# Altium footprint library LPSON_RES.PcbLib: 28 footprints (part 2 of 2)
Each footprint in its own frame and in the unit in brackets; x right, y up, seen from the top. Pads: shape width x height; smd on the part's side, far side on the other; paste and mask are expansions set on the pad; w line width, h text height; cw(c..) or ccw(c..) is an arc to the next point about the centre after c.
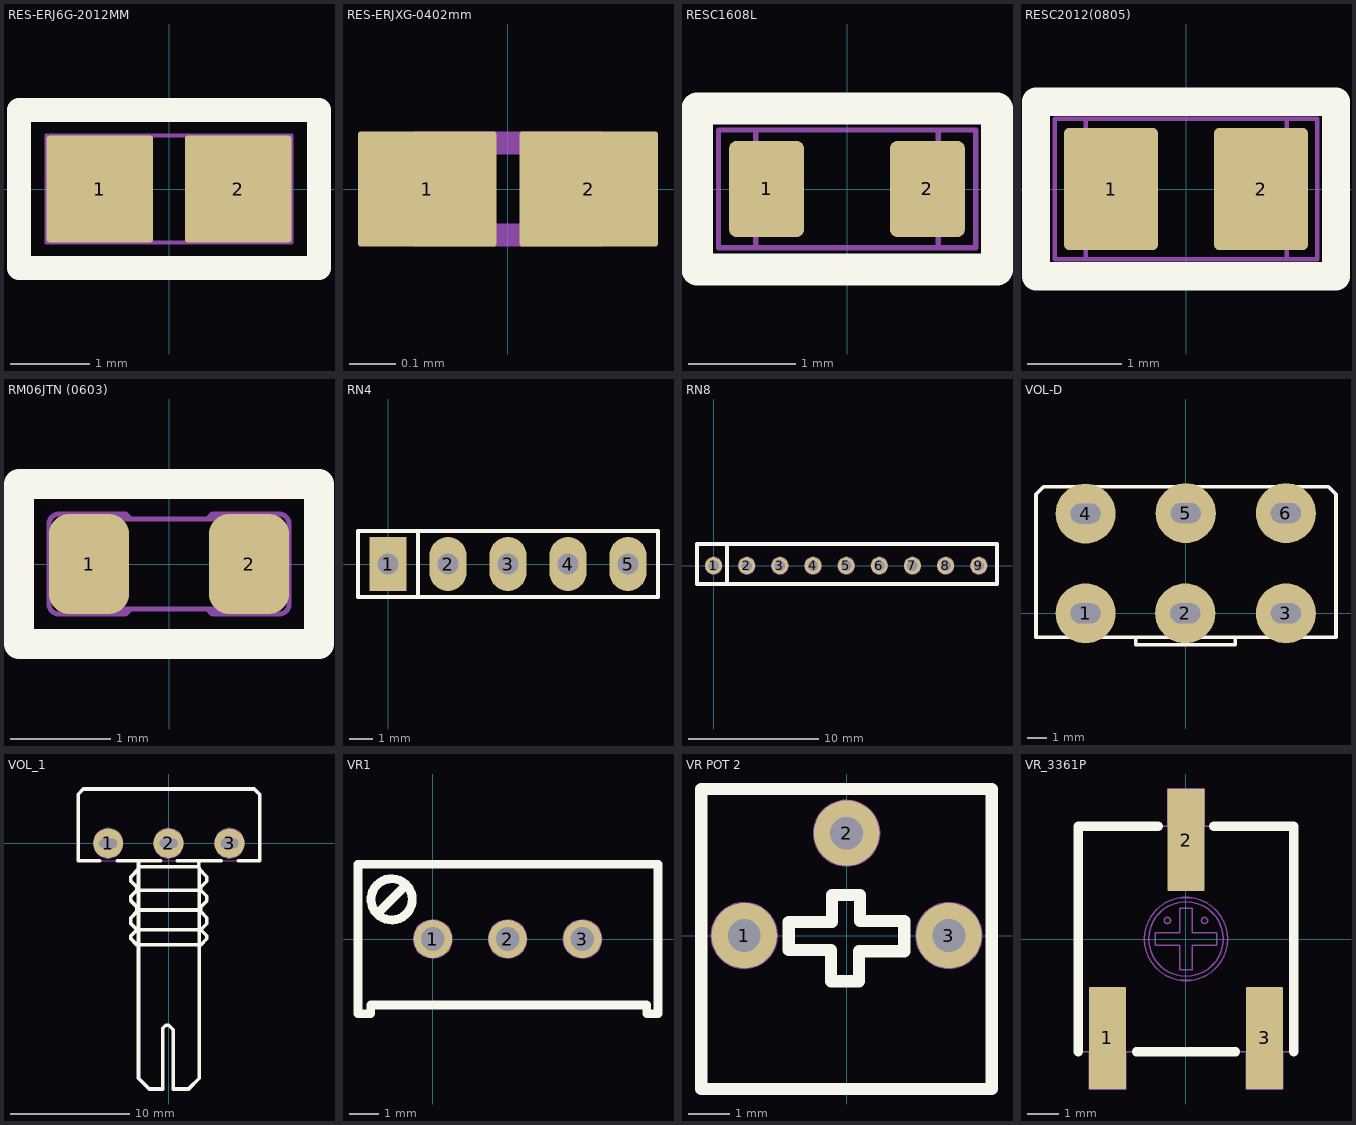
[diagram p1: the footprints below, top view; thin cyan lines are the x and y axes]

## RES-ERJ6G-2012MM [mm] "Chip Resistor, Body 2.0x1.3mm, 1/8W 0805INCH"
height 0.7
pads (2):
  rrect5% 1.35x1.35 smd mask+0.1: 1(-0.875,0) 2(0.875,0)
Top Overlay:
  lines w0.3: -1.9,-1 -1.9,1 1.9,1 1.9,-1 -1.9,-1
Mechanical 1:
  lines w0.05: -0.15,-0.675 -1.55,-0.675 -1.55,0.675 -0.15,0.675 ; 0.8,-0.675 1.55,-0.675 1.55,0.675 0.8,0.675 ; -1.05,-0.675 1.05,-0.675 1.05,0.675 -1.05,0.675 -1.05,-0.675
  text "R?" at 0,0 h0.5
3D body "Res 0805.STEP": height 0.6, standoff 0, extent -1,-0.625 1,0.625

## RES-ERJXG-0402mm [mm] "Chip Resistor, Body 0402mm, 0.031W 1005inch"
height 0.15
pads (2):
  rrect5% 0.3x0.25 smd mask+0.05: 1(-0.175,0) 2(0.175,0)
Mechanical 1:
  lines w0.05: -0.1,-0.1 -0.1,0.1 ; 0.1,-0.1 0.1,0.1 ; -0.2,-0.1 0.2,-0.1 0.2,0.1 -0.2,0.1 -0.2,-0.1
  text "R?" at 0,0 h0.5
3D body "User Library-Chip Resistor2.step": height 0.26, standoff 0, extent -0.3,-0.15 0.3,0.15

## RESC1608L [mm] "Chip Resistor, Body 1.6x0.8mm, 1/10W 0603"
height 0.6
pads (2):
  rrect20% 0.7x0.9 smd: 1(-0.75,0) 2(0.75,0)
Top Overlay:
  lines w0.3: -1.4,-0.75 -1.4,0.75 1.4,0.75 1.4,-0.75 -1.4,-0.75
Mechanical 1:
  lines w0.05: -0.85,-0.55 -0.85,0.55 ; 0.85,-0.54 0.85,0.54 ; -1.2,-0.55 -1.2,0.55 1.2,0.55 1.2,-0.55 -1.2,-0.55
  text "R?" at 0,0 h0.5
3D body "Res 0603.STEP": height 0.45, standoff 0, extent -0.8,-0.4 0.8,0.4

## RESC2012(0805) [mm] "Chip Resistor, Body 2.0x1.3mm, 1/8W 0805"
height 0.65
pads (2):
  rrect10% 1x1.3 smd: 1(-0.8,0) 2(0.8,0)
Top Overlay:
  lines w0.3: -1.6,-0.93 1.6,-0.93 1.6,0.93 -1.6,0.93 -1.6,-0.93
Mechanical 1:
  lines w0.05: -1.07,-0.74 -1.07,0.75 ; 1.075,-0.74 1.075,0.75 ; -1.4,-0.75 1.4,-0.75 1.4,0.75 -1.4,0.75 -1.4,-0.75
  text "R?" at 0,0 h0.5
3D body "Res 0805.STEP": height 0.6, standoff 0, extent -1,-0.625 1,0.625

## RM06JTN (0603) [mm] "RESISTOR_1/10W_SMD"
height 0.6
pads (2):
  rrect50% 0.8x1 smd mask+0.1: 1(-0.8,0) 2(0.8,0)
Top Overlay:
  lines w0.3: -1.5,-0.8 -1.5,0.8 1.5,0.8 1.5,-0.8 -1.5,-0.8
Mechanical 1:
  lines w0.05: -0.4,-0.449 cw(c-0.45,-0.449) -0.451,-0.5 -1.1,-0.5 cw(c-1.1,-0.4) -1.2,-0.4 -1.2,0.4 cw(c-1.1,0.4) -1.1,0.5 -0.45,0.5 cw(c-0.45,0.45) -0.4,0.45 ; 0.4,-0.45 ccw(c0.45,-0.45) 0.45,-0.5 1.1,-0.5 ccw(c1.1,-0.4) 1.2,-0.4 1.2,0.4 ccw(c1.1,0.4) 1.1,0.5 0.45,0.5 ccw(c0.45,0.45) 0.4,0.45 ; -0.85,-0.45 -0.85,0.45 0.85,0.45 0.85,-0.45 -0.85,-0.45
  text "R?" at 0,0 h0.5
3D body "User Library-Panasonic0603.step": height 0.45, standoff 0, extent -0.8,-0.41 0.8,0.41

## RN4 [mil] "R SIP4, 5 Pin"
height 200
pads (5):
  rect 62x90 hole 35: 1(0,0)
  oval 62x90 hole 35: 2(100,0) 3(200,0) 4(300,0) 5(400,0)
Top Overlay:
  lines w7: 50,-55 50,55 ; -50,-55 -50,55 450,55 450,-55 -50,-55

## RN8 [mm] "R SIP8, 9 Pin"
height 5.08
pads (9):
  round 1.3 hole 0.8: 1(0,0) 2(2.54,0) 3(5.08,0) 4(7.62,0) 5(10.16,0) 6(12.7,0) 7(15.24,0) 8(17.78,0) 9(20.32,0)
Top Overlay:
  lines w0.3: 1.016,-1.397 1.016,1.651 ; -1.27,-1.397 -1.27,1.651 21.717,1.651 21.717,-1.397 -1.27,-1.397
Mechanical 1:
  circle w0.05: c20.32,0 r0.65
  circle w0.05: c17.78,0 r0.65
  circle w0.05: c15.24,0 r0.65
  circle w0.05: c12.7,0 r0.65
  circle w0.05: c10.16,0 r0.65
  circle w0.05: c7.62,0 r0.65
  circle w0.05: c5.08,0 r0.65
  circle w0.05: c2.54,0 r0.65
  circle w0.05: c0,0 r0.65
  lines w0.05: 1.016,-1.397 1.016,1.651 ; -1.27,-1.397 21.717,-1.397 21.717,1.651 -1.27,1.651 -1.27,-1.397
  text "9" at 20.1,-0.4 h0.8
  text "1" at -0.1,-0.4 h0.8
3D body "SW3dPS-Resistor Networks-1.STEP": height 6.59, standoff -1.91, extent -1.05,-0.6 21.45,0.65

## VOL-D [mil] "Volume control Dual"
height 400
pads (6):
  round 120 hole 40 slot 60 at 0 deg: 1(-200,0) 2(-1,0) 3(200,0) 4(-200,199) 5(0,200) 6(200,200)
Top Overlay:
  lines w7: -100,-48 -100,-63 99,-63 99,-48 ; -299,-48 -299,238 -284,253 285,253 300,238 300,-48 -299,-48
3D body "SW3dPS-ALPHA-potentiometer stereo PCB mount.STEP": height 834.65, standoff -129.92, extent -338.64,-1309.26 330.65,299

## VOL_1 [mm]
pads (3):
  round 2.5 hole 0.8 slot 1.5 at 0 deg: 1(-5.08,0) 2(-0.025,0) 3(5.08,0)
Top Overlay:
  lines w0.3: -5.8,-1.448 -7.595,-1.448 -7.595,4.115 -7.163,4.547 7.163,4.547 7.62,4.089 7.62,-1.448 5.8,-1.448 ; -4.3,-1.448 -0.7,-1.448 ; -2.667,-8.509 -3.175,-8.001 -3.175,-7.747 -2.667,-7.239 -3.175,-6.731 -3.175,-6.223 -2.667,-5.715 -2.667,-5.334 -3.175,-4.826 -3.175,-4.445 -2.667,-3.937 -2.667,-3.683 -3.175,-3.175 -3.175,-2.794 -2.54,-2.159 ; -2.667,-5.588 2.54,-5.588 ; -2.54,-19.558 -2.54,-1.956 ; -2.54,-19.304 -2.54,-19.685 -1.651,-20.574 -0.508,-20.574 -0.508,-15.494 -0.254,-15.24 0,-15.24 0.381,-15.621 0.381,-20.447 ; -2.54,-8.509 2.667,-8.509 3.175,-8.001 3.175,-7.747 2.667,-7.239 ; -2.54,-7.239 2.667,-7.239 ; -2.54,-1.448 -2.54,-1.956 ; -2.515,-1.956 -2.515,-1.448 ; -2.413,-3.937 2.54,-3.937 ; 0.381,-20.574 1.651,-20.574 2.54,-19.685 ; 0.7,-1.448 4.4,-1.448 ; 2.515,-1.448 2.515,-1.956 -2.54,-1.956 ; 2.54,-19.558 2.54,-2.032 ; 2.54,-2.159 3.175,-2.794 3.175,-3.175 2.667,-3.683 2.667,-3.937 3.175,-4.445 3.175,-4.826 2.667,-5.334 2.667,-5.715 3.175,-6.223 3.175,-6.731 2.667,-7.239
Mechanical 1:
  circle w0.05: c5.08,0 r1.25
  circle w0.05: c-0.025,0 r1.25
  circle w0.05: c-5.08,0 r1.25
  lines w0.05: -2.667,-8.509 -3.175,-8.001 -3.175,-7.747 -2.667,-7.239 -3.175,-6.731 -3.175,-6.223 -2.667,-5.715 -2.667,-5.334 -3.175,-4.826 -3.175,-4.445 -2.667,-3.937 -2.667,-3.683 -3.175,-3.175 -3.175,-2.794 -2.54,-2.159 ; -2.667,-5.588 2.54,-5.588 ; -2.54,-19.558 -2.54,-1.956 ; -2.54,-19.304 -2.54,-19.685 -1.651,-20.574 -0.508,-20.574 -0.508,-15.494 -0.254,-15.24 0,-15.24 0.381,-15.621 0.381,-20.447 ; -2.54,-8.509 2.667,-8.509 3.175,-8.001 3.175,-7.747 2.667,-7.239 ; -2.54,-7.239 2.667,-7.239 ; -2.54,-1.448 -2.54,-1.956 ; -2.515,-1.956 -2.515,-1.448 ; -2.413,-3.937 2.54,-3.937 ; 0.381,-20.574 1.651,-20.574 2.54,-19.685 ; 2.515,-1.448 2.515,-1.956 -2.54,-1.956 ; 2.54,-19.558 2.54,-2.032 ; 2.54,-2.159 3.175,-2.794 3.175,-3.175 2.667,-3.683 2.667,-3.937 3.175,-4.445 3.175,-4.826 2.667,-5.334 2.667,-5.715 3.175,-6.223 3.175,-6.731 2.667,-7.239 ; -7.595,-1.448 -7.595,4.115 -7.163,4.547 7.163,4.547 7.62,4.089 7.62,-1.448 -7.595,-1.448
3D body "SW3dPS-Pot.STEP": height 21.32, standoff -3.3, extent -7.874,-20.78 7.874,4.778

## VR1 [mm] "Variable Resistor"
height 10.16
pads (3):
  round 1.3 hole 0.8 mask+0.1: 1(0,0) 2(2.54,0) 3(5.08,0)
Top Overlay:
  circle w0.3: c-1.397,1.346 r0.7
  lines w0.3: -1.872,0.872 -0.922,1.822 ; -2.54,-2.54 -2.108,-2.54 -2.108,-2.235 7.264,-2.235 7.264,-2.54 7.645,-2.54 7.645,2.54 -2.54,2.54 -2.54,-2.54
Mechanical 1:
  circle w0.05: c5.08,0 r0.65
  circle w0.05: c2.54,0 r0.65
  circle w0.05: c0,0 r0.65
  circle w0.05: c-1.397,1.346 r0.7
  lines w0.05: -1.872,0.872 -0.922,1.822 ; -2.54,-2.54 -2.108,-2.54 -2.108,-2.235 7.264,-2.235 7.264,-2.54 7.645,-2.54 7.645,2.54 -2.54,2.54 -2.54,-2.54
  text "3" at 4.77,-0.51 h1
  text "2" at 2.24,-0.53 h1
  text "1" at -0.14,-0.49 h1
3D body "SW3dPS-Bourns_3299W.STEP": height 11.56, standoff -1.14, extent -2.223,-3.302 7.302,2.794

## VR POT 2 [mm] "Resistor Variable"
height 5.08
pads (3):
  round 1.6 hole 0.8 mask+0.1: 1(-2.5,0) 2(0,2.5) 3(2.5,0)
Top Overlay:
  lines w0.3: -3.55,-3.75 -3.55,3.58 3.55,3.58 3.55,-3.75 -3.55,-3.75 ; -1.41,-0.356 -1.41,0.33 -0.356,0.33 -0.356,0.991 0.33,0.991 0.33,0.356 1.41,0.356 1.41,-0.381 0.305,-0.381 0.305,-1.118 -0.381,-1.118 -0.381,-0.356 -1.41,-0.356
Mechanical 2:
  circle w0.05: c2.5,0 r0.8
  circle w0.05: c0,2.5 r0.8
  circle w0.05: c-2.5,0 r0.8
  lines w0.05: -3.54,-3.75 3.57,-3.75 3.57,3.58 -3.54,3.58 -3.54,-3.75 ; -1.41,-0.356 -1.41,0.33 -0.356,0.33 -0.356,0.991 0.33,0.991 0.33,0.356 1.41,0.356 1.41,-0.381 0.305,-0.381 0.305,-1.118 -0.381,-1.118 -0.381,-0.356 -1.41,-0.356
  text "2" at -0.26,2.11 h0.8
  text "3" at 2.25,-0.35 h0.8
  text "1" at -2.62,-0.35 h0.8
3D body "User Library-Bourns 3362P.STEP": height 4.7, standoff -5.47, extent -3.3,-3.754 3.3,3.3

## VR_3361P [mm] "3361 SQUARE SMD TRIMPOT 6.71x7.04mm"
height 5.84
pads (3):
  rrect5% 1.19x3.3 smd mask+0.1: 1(-2.54,-3.2) 2(0,3.2) 3(2.54,-3.2)
Top Overlay:
  lines w0.3: -3.48,-3.645 -3.48,3.645 -0.9,3.645 ; -1.6,-3.645 1.6,-3.645 ; 0.9,3.645 3.48,3.645 3.48,-3.645
Mechanical 1:
  circle w0.05: c0,0 r1.204
  circle w0.05: c0,0 r1.345
  circle w0.05: c-0.6,0.6 r0.1
  circle w0.05: c0.6,0.6 r0.1
  lines w0.05: -3.48,-3.645 3.48,-3.645 3.48,3.645 -3.48,3.645 -3.48,-3.645 ; -3.135,-4.85 -1.945,-4.85 -1.945,-3.645 -3.135,-3.645 -3.135,-4.85 ; -1,-0.2 -1,0.2 -0.2,0.2 -0.2,1 0.2,1 0.2,0.2 1,0.2 1,-0.2 0.2,-0.2 0.2,-1 -0.2,-1 -0.2,-0.2 -1,-0.2 ; -0.595,3.645 -0.595,4.85 0.595,4.85 0.595,3.645 -0.595,3.645 ; 1.945,-4.85 1.945,-3.645 3.135,-3.645 3.135,-4.85 1.945,-4.85
  text "VR?" at 0,0 h1
  text "1" at -2.7,-3.3 h1
  text "3" at 2.3,-3.3 h1
  text "2" at -0.3,2.3 h1